# Altium footprint library конденсаторы.PcbLib: 26 footprints (part 1 of 2)
Each footprint in its own frame and in the unit in brackets; x right, y up, seen from the top. Pads: shape width x height; smd on the part's side, far side on the other; paste and mask are expansions set on the pad; w line width, h text height; cw(c..) or ccw(c..) is an arc to the next point about the centre after c.
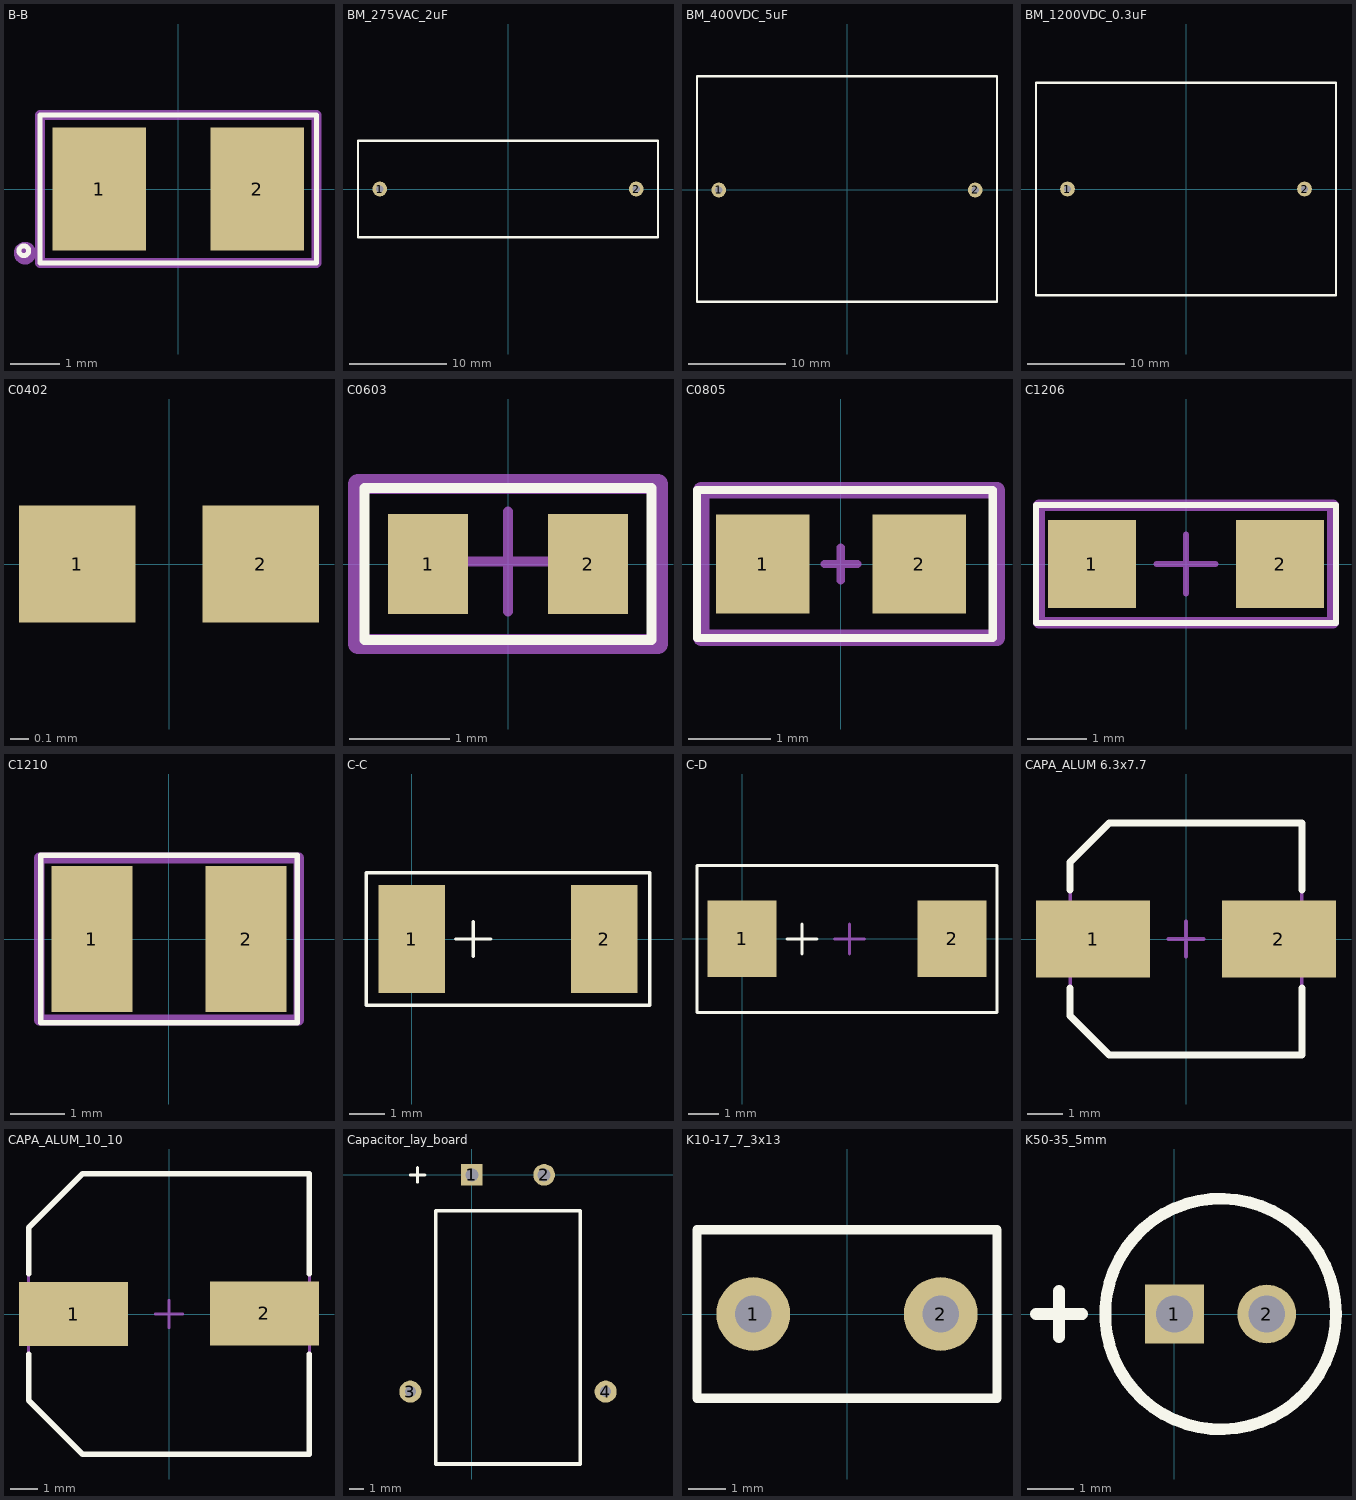
[diagram p0: the footprints below, top view; thin cyan lines are the x and y axes]

## B-B [mm]
pads (2):
  rect 1.9x2.5 smd: 1(-1.6,0) 2(1.6,0)
Top Overlay:
  circle w0.1: c-3.125,-1.25 r0.098
  lines w0.1: -2.8,-1.5 2.8,-1.5 2.8,1.497 -2.8,1.497 -2.8,-1.5
ASSEMBLY_TOP:
  circle w0.254: c-3.1,-1.3 r0.1
  lines w0.2: -2.8,-1.5 -2.8,1.5 2.8,1.5 2.8,-1.5 -2.8,-1.5
  text ".Designator" at -2.1,-0.7 h1.52
3D body "B.STEP": height 2.11, standoff -0.04, extent -2.499,-1.5 2.499,1.497

## BM_275VAC_2uF [mil]
pads (2):
  round 60 hole 30: 1(-521.65,0) 2(521.65,0)
Top Overlay:
  lines w10: -610.24,-196.85 610.24,-196.85 610.24,196.85 -610.24,196.85 -610.24,-196.85

## BM_400VDC_5uF [mil]
pads (2):
  round 60 hole 30: 1(-521.65,0) 2(521.65,0)
Top Overlay:
  lines w10: -610.24,-454.72 610.24,-454.72 610.24,462.6 -610.24,462.6 -610.24,-454.72

## BM_1200VDC_0.3uF [mil]
pads (2):
  round 60 hole 30: 1(-482.28,0) 2(482.28,0)
Top Overlay:
  lines w10: -610.24,-433.07 -610.24,433.07 610.24,433.07 610.24,-433.07 -610.24,-433.07

## C0402 [mm]
pads (2):
  rect 0.635x0.635 smd: 1(-0.5,0) 2(0.5,0)
3D body "User Library-d0402h025.step": height 0.25, standoff 0, extent -0.5,-0.25 0.5,0.25

## C0603 [mm]
pads (2):
  rect 0.8x1 smd: 1(-0.8,0) 2(0.8,0)
Top Overlay:
  lines w0.1: -1.435,-0.762 -1.435,0.762 1.435,0.762 1.435,-0.762 -1.435,-0.762
ASSEMBLY_TOP:
  lines w0.2: -1.5,-0.8 -1.5,0.8 1.5,0.8 1.5,-0.8 -1.5,-0.8
  text ".Designator" at -1.1,-0.4 h1.52
Mechanical 15:
  lines w0.1: -0.527,0.025 0.473,0.025 ; -0.002,-0.475 -0.002,0.525
3D body "C0603.STEP": height 0.3, standoff 0, extent -0.8,-0.4 0.8,0.4

## C0805 [mm]
pads (2):
  rect 1.14x1.2 smd: 1(-0.953,0) 2(0.953,0)
Top Overlay:
  lines w0.1: -1.753,-0.9 1.847,-0.9 1.847,0.9 -1.753,0.9 -1.753,-0.9
ASSEMBLY_TOP:
  lines w0.2: -1.7,-0.9 1.9,-0.9 1.9,0.9 -1.7,0.9 -1.7,-0.9
  text ".Designator" at -1.3,-0.5 h1.52
Mechanical 15:
  lines w0.1: -0.2,0 0.2,0 ; -0.002,-0.2 -0.002,0.2
3D body "C0805.STEP": height 0.78, standoff 0, extent -0.952,-0.625 1.048,0.625

## C1206 [mm]
pads (2):
  rect 1.5x1.5 smd: 1(-1.6,0) 2(1.6,0)
Top Overlay:
  lines w0.1: -2.55,-1 2.55,-1 2.55,1 -2.55,1 -2.55,-1
ASSEMBLY_TOP:
  lines w0.2: -2.5,-1 2.5,-1 2.5,1 -2.5,1 -2.5,-1
  text "'.Designator'" at -2.5,-0.6 h1.52
Mechanical 15:
  lines w0.1: -0.5,0 0.5,0 ; 0,-0.5 0,0.5
3D body "C1206.STEP": height 1, standoff 0, extent -1.6,-0.8 1.6,0.8

## C1210 [mm]
pads (2):
  rect 1.5x2.7 smd: 1(-1.425,0) 2(1.425,0)
Top Overlay:
  lines w0.1: -2.375,-1.55 -2.375,1.55 2.375,1.55 2.375,-1.55 -2.375,-1.55
Маркировка сборки:
  lines w0.2: -2.4,-1.5 -2.4,1.5 2.4,1.5 2.4,-1.5 -2.4,-1.5
  text "'.Designator'" at -2.4,-0.3 h1.52
3D body "C1210.STEP": height 0.95, standoff -0.01, extent -2.103,-1.357 2.097,1.343

## C-C [mm]
pads (2):
  rect 1.9x3.08 smd: 1(0,0) 2(5.5,0)
Top Overlay:
  lines w0.1: 1.25,0 2.25,0 ; 1.75,-0.5 1.75,0.5 ; -1.3,-1.9 6.8,-1.9 6.8,1.9 -1.3,1.9 -1.3,-1.9
3D body "C-C.STEP": height 2.6, standoff 0, extent -0.1,-1.6 5.7,1.6

## C-D [mm]
pads (2):
  rect 2.3x2.55 smd: 1(0,0) 2(7,0)
Top Overlay:
  lines w0.1: 1.5,0 2.5,0 ; 2,-0.5 2,0.5 ; -1.5,-2.45 -1.5,2.45 8.5,2.45 8.5,-2.45 -1.5,-2.45
Mechanical 15:
  lines w0.1: 3.075,0 4.075,0 ; 3.575,-0.5 3.575,0.5
3D body "C-D.STEP": height 3.01, standoff 0, extent -0.125,-2.225 7.275,2.225

## CAPA_ALUM 6.3x7.7 [mm] "Aluminum Electrolytic Capacitor, Body 6,60x6,60x6,30mm, IPC Low Density"
height 6.3
pads (2):
  rect 3.25x2.2 smd: 1(-2.65,0) 2(2.65,0)
Top Overlay:
  lines w0.2: -3.3,-1.4 -3.3,-2.2 -2.2,-3.3 3.3,-3.3 3.3,-1.4 ; -3.3,1.4 -3.3,2.2 -2.2,3.3 3.3,3.3 3.3,1.4
Mechanical 13:
  lines w0.1: -3.3,-2.2 -2.2,-3.3 3.3,-3.3 3.3,3.3 -2.2,3.3 -3.3,2.2 -3.3,-2.2
Mechanical 15:
  lines w0.1: -0.5,0 0.5,0 ; 0,-0.5 0,0.5
3D body "CC0607.step": height 8.11, standoff 0, extent -3.5,-3.275 3.5,3.325

## CAPA_ALUM_10_10 [mm]
pads (2):
  rect 4x2.35 smd: 1(-3.5,0) 2(3.5,0.025)
Top Overlay:
  lines w0.2: -5.15,-1.475 -5.15,-3.163 -3.163,-5.15 5.15,-5.15 5.15,-1.475 ; -5.15,1.475 -5.15,3.162 -3.163,5.15 5.15,5.15 5.15,1.475
Mechanical 13:
  lines w0.1: -5.15,-3.163 -5.15,3.162 -3.163,5.15 5.15,5.15 5.15,-5.15 -3.163,-5.15 -5.15,-3.163
Mechanical 15:
  lines w0.1: -0.5,0 0.5,0 ; 0,-0.5 0,0.5
3D body "CC1010.step": height 10.41, standoff 0, extent -5.5,-5.2 5.5,5.2

## Capacitor_lay_board [mm]
pads (4):
  rect 1.5x1.5 hole 0.9: 1(0,0)
  round 1.5 hole 0.9: 2(5,0)
  round 1.524 hole 0.762: 3(-4.25,-14.98) 4(9.25,-14.98)
Top Overlay:
  lines w0.2: -4.258,0 -3.242,0 ; -3.75,-0.508 -3.75,0.508
  lines w0.254: -2.5,-19.98 7.5,-19.98 7.5,-2.48 -2.5,-2.48 -2.5,-19.98

## K10-17_7_3x13 [mm]
pads (2):
  round 2 hole 1: 1(-2.54,0) 2(2.54,0)
Top Overlay:
  lines w0.254: -4.064,-2.286 4.064,-2.286 4.064,2.286 -4.064,2.286 -4.064,-2.286
3D body "K10-17B 7_5x4_5x5mm.STEP": height 8, standoff -2.5, extent -3.749,-2.25 3.751,2.25

## K50-35_5mm [mm]
pads (2):
  rect 1.27x1.27 hole 0.8: 1(0,0)
  round 1.27 hole 0.8: 2(2,0)
Top Overlay:
  circle w0.254: c1,0 r2.5
  lines w0.254: -3,0 -2,0 ; -2.5,-0.5 -2.5,0.5